# Altium footprint library PASSIVE_THD.PCBLIB: 248 footprints (part 6 of 16)
Each footprint in its own frame and in the unit in brackets; x right, y up, seen from the top. Pads: shape width x height; smd on the part's side, far side on the other; paste and mask are expansions set on the pad; w line width, h text height; cw(c..) or ccw(c..) is an arc to the next point about the centre after c.
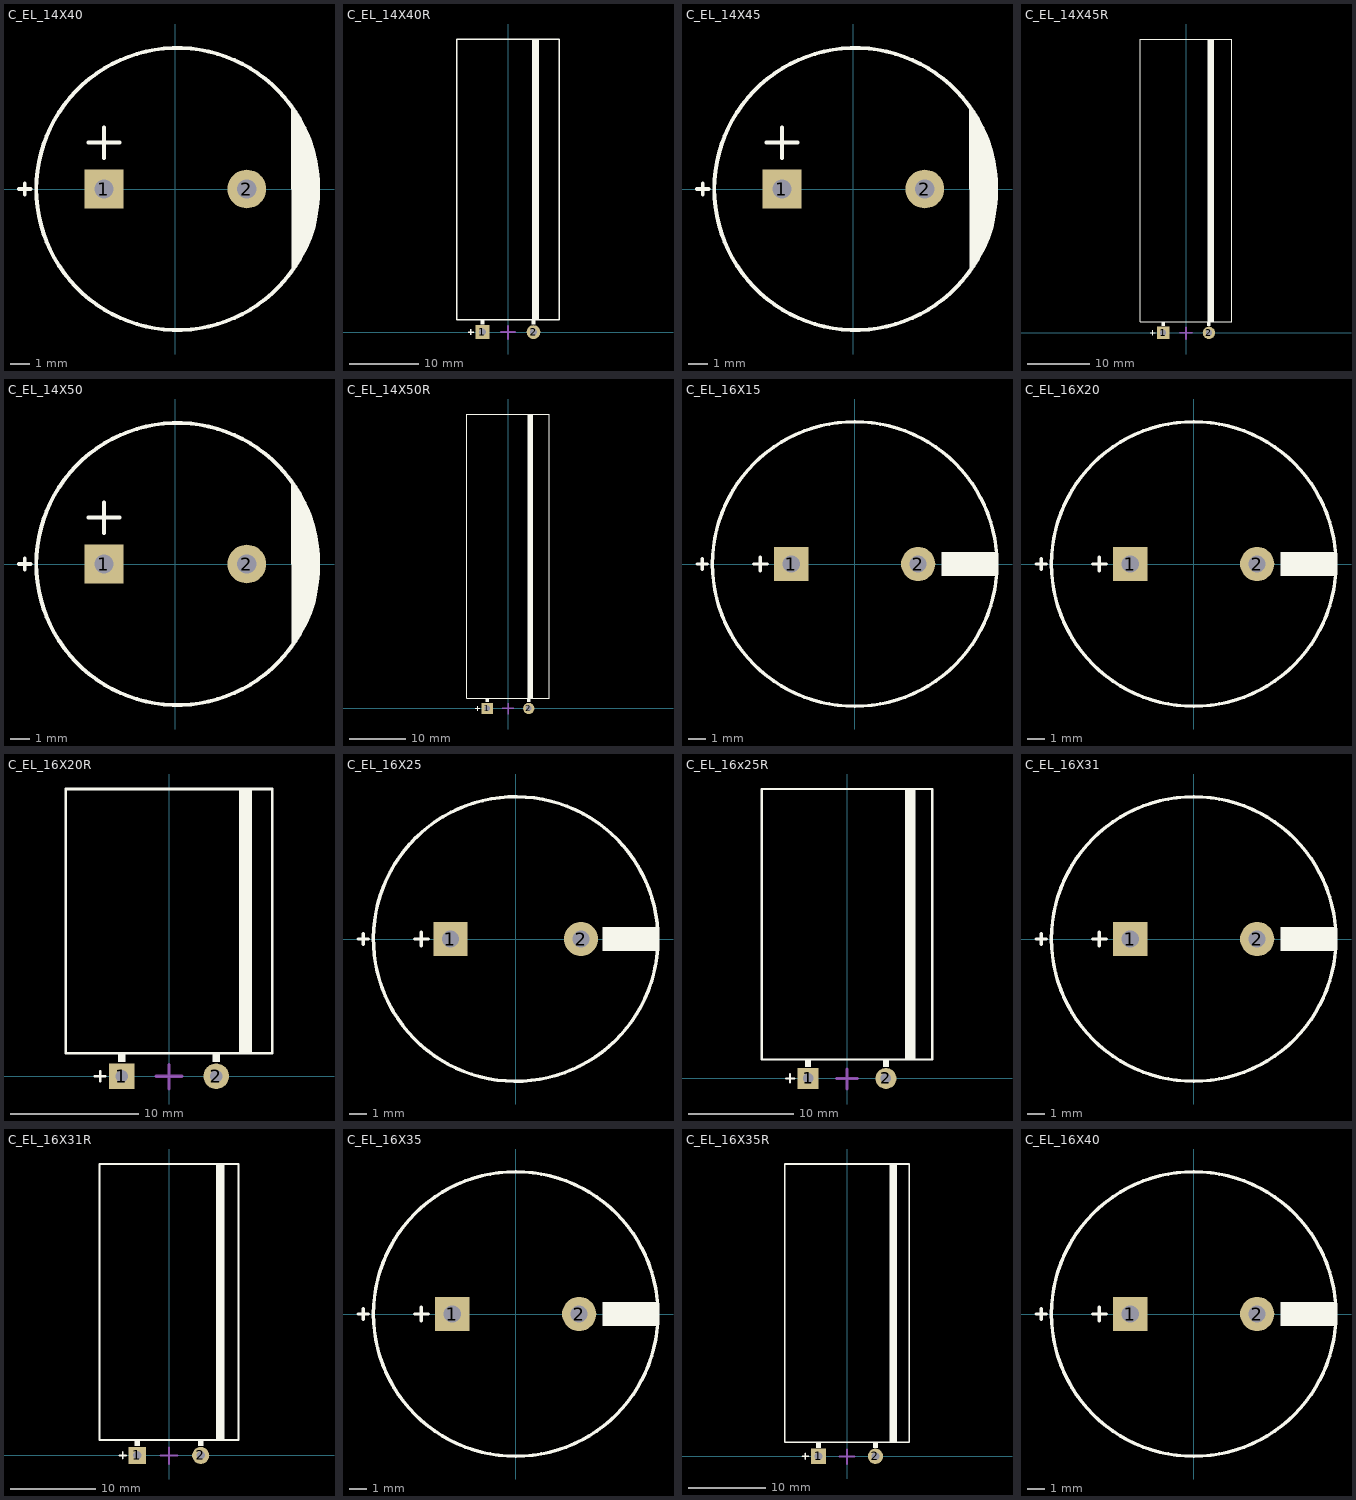
[diagram p5: the footprints below, top view; thin cyan lines are the x and y axes]

## C_EL_14X40 [mm] "Capacitor Electrolythic, D14.5X40H pitch: 7.4mm"
height 26
pads (2):
  rect 2x2 hole 1: 1(-3.7,0)
  round 2 hole 1: 2(3.7,0)
TopOverlay:
  circle w0.2: c0.096,0 r7.3
  region: 6,4.3 6.188,4.079 6.52,3.603 6.804,3.097 7.036,2.565 7.215,2.013 7.34,1.446 7.408,0.87 7.419,0.289 7.396,0 6,0
  region: 6.014,-4.294 6.203,-4.073 6.534,-3.597 6.818,-3.091 7.05,-2.559 7.23,-2.007 7.354,-1.44 7.422,-0.864 7.433,-0.283 7.41,0.006 6.014,0.006
  lines w0.2: -8.1,0 -7.5,0 ; -7.8,-0.3 -7.8,0.3 ; -4.5,2.4 -2.9,2.4 ; -3.7,1.6 -3.7,3.2
3D body "cap_el_vertical_d14.5_h40_p7.5_w0.8.stp": height 40.01, standoff -3, extent -7.242,-7.249 7.25,7.249

## C_EL_14X40R [mm] "Capacitor Electrolythic, D14.5X40H pitch: 7.4mm"
height 40
pads (2):
  rect 2x2 hole 1: 1(-3.7,0)
  round 2 hole 1: 2(3.7,0)
TopOverlay:
  region: 4,1.8 3.4,1.8 3.4,1.1 4,1.1
  rectangle: -4,1.1 -3.4,1.8
  rectangle: 3.5,1.8 4.5,42.5
  lines w0.2: -5.8,0 -5,0 ; -5.4,-0.4 -5.4,0.4 ; -7.4,1.8 -7.4,42.5 7.4,42.5 7.4,1.8 -7.4,1.8
Mechanical13:
  lines w0.254: -1,0 1,0 ; 0,-1 0,0.9
3D body "cap_el_horizontal_d14.5_h40_p7.5_w0.8.stp": height 14.6, standoff -3, extent -7.369,-0.4 7.123,42.41

## C_EL_14X45 [mm] "Capacitor Electrolythic, D14.5X45H pitch: 7.4mm"
height 26
pads (2):
  rect 2x2 hole 1: 1(-3.7,0)
  round 2 hole 1: 2(3.7,0)
TopOverlay:
  circle w0.2: c0.096,0 r7.3
  region: 6,4.3 6.188,4.079 6.52,3.603 6.804,3.097 7.036,2.565 7.215,2.013 7.34,1.446 7.408,0.87 7.419,0.289 7.396,0 6,0
  region: 6.014,-4.294 6.203,-4.073 6.534,-3.597 6.818,-3.091 7.05,-2.559 7.23,-2.007 7.354,-1.44 7.422,-0.864 7.433,-0.283 7.41,0.006 6.014,0.006
  lines w0.2: -8.1,0 -7.5,0 ; -7.8,-0.3 -7.8,0.3 ; -4.5,2.4 -2.9,2.4 ; -3.7,1.6 -3.7,3.2
3D body "cap_el_vertical_d14.5_h45_p7.5_w0.8.stp": height 45.01, standoff -3, extent -7.24,-7.239 7.25,7.239

## C_EL_14X45R [mm] "Capacitor Electrolythic, D14.5X45H pitch: 7.4mm"
height 40
pads (2):
  rect 2x2 hole 1: 1(-3.7,0)
  round 2 hole 1: 2(3.7,0)
TopOverlay:
  region: 4,1.8 3.4,1.8 3.4,1.1 4,1.1
  rectangle: -4,1.1 -3.4,1.8
  rectangle: 3.5,1.8 4.5,47.5
  lines w0.2: -5.8,0 -5,0 ; -5.4,-0.4 -5.4,0.4 ; -7.4,1.8 -7.4,47.5 7.4,47.5 7.4,1.8 -7.4,1.8
Mechanical13:
  lines w0.254: -1,0 1,0 ; 0,-1 0,0.9
3D body "cap_el_horizontal_d14.5_h45_p7.5_w0.8.stp": height 14.59, standoff -3, extent -7.24,-0.4 7.25,47.41

## C_EL_14X50 [mm] "Capacitor Electrolythic, D14.5X50H pitch: 7.4mm"
height 26
pads (2):
  rect 2x2 hole 1: 1(-3.7,0)
  round 2 hole 1: 2(3.7,0)
TopOverlay:
  circle w0.2: c0.096,0 r7.3
  region: 6.014,-4.294 6.203,-4.073 6.534,-3.597 6.818,-3.091 7.05,-2.559 7.23,-2.007 7.354,-1.44 7.422,-0.864 7.433,-0.283 7.41,0.006 6.014,0.006
  region: 6,4.3 6.188,4.079 6.52,3.603 6.804,3.097 7.036,2.565 7.215,2.013 7.34,1.446 7.408,0.87 7.419,0.289 7.396,0 6,0
  lines w0.2: -8.1,0 -7.5,0 ; -7.8,-0.3 -7.8,0.3 ; -4.5,2.4 -2.9,2.4 ; -3.7,1.6 -3.7,3.2
3D body "cap_el_vertical_d14.5_h50_p7.5_w0.8.stp": height 50.01, standoff -3, extent -7.24,-7.245 7.25,7.245

## C_EL_14X50R [mm] "Capacitor Electrolythic, D14.5X50H pitch: 7.4mm"
height 40
pads (2):
  rect 2x2 hole 1: 1(-3.7,0)
  round 2 hole 1: 2(3.7,0)
TopOverlay:
  rectangle: 3.5,1.8 4.5,52.5
  rectangle: -4,1.1 -3.4,1.8
  region: 4,1.8 3.4,1.8 3.4,1.1 4,1.1
  lines w0.2: -5.8,0 -5,0 ; -5.4,-0.4 -5.4,0.4 ; -7.4,1.8 7.4,1.8 7.4,52.5 -7.4,52.5 -7.4,1.8
Mechanical13:
  lines w0.254: -1,0 1,0 ; 0,-1 0,0.9
3D body "cap_el_horizontal_d14.5_h50_p7.5_w0.8.stp": height 14.6, standoff -3, extent -7.24,-0.4 7.25,52.41

## C_EL_16X15 [mm] "Capacitor Electrolythic, D16X15H pitch: 7.4mm"
height 26
pads (2):
  rect 2x2 hole 1: 1(-3.7,0)
  round 2 hole 1: 2(3.7,0)
TopOverlay:
  circle w0.2: c0,0 r8.3
  rectangle: 5.07,-0.7 8.3,0.7
  lines w0.2: -9.2,0 -8.6,0 ; -8.9,-0.3 -8.9,0.3 ; -5.9,0 -5.1,0 ; -5.5,-0.4 -5.5,0.4
3D body "CAP_RAD_D16x15_POL_BK.stp": height 16.5, standoff -2.5, extent -8.25,-8.243 8.25,8.243

## C_EL_16X20 [mm] "Capacitor Electrolythic, D16X20H pitch: 7.4mm"
height 26
pads (2):
  rect 2x2 hole 1: 1(-3.7,0)
  round 2 hole 1: 2(3.7,0)
TopOverlay:
  circle w0.2: c0,0 r8.3
  rectangle: 5.07,-0.7 8.3,0.7
  lines w0.2: -9.2,0 -8.6,0 ; -8.9,-0.3 -8.9,0.3 ; -5.9,0 -5.1,0 ; -5.5,-0.4 -5.5,0.4
3D body "cap_el_vertical_d16_h20_p7.5_w0.8.stp": height 20.01, standoff -3, extent -8,-8 8.01,8

## C_EL_16X20R [mm] "Capacitor Electrolythic, D16X20H pitch: 7.4mm"
height 40
pads (2):
  rect 2x2 hole 1: 1(-3.7,0)
  round 2 hole 1: 2(3.7,0)
TopOverlay:
  rectangle: 5.5,1.8 6.5,22.5
  rectangle: -4,1.1 -3.4,1.8
  region: 4,1.8 3.4,1.8 3.4,1.1 4,1.1
  lines w0.2: -5.8,0 -5,0 ; -5.4,-0.4 -5.4,0.4 ; -8.1,1.8 8.1,1.8 8.1,22.5 -8.1,22.5 -8.1,1.8
Mechanical13:
  lines w0.254: -1,0 1,0 ; 0,-1 0,0.9
3D body "cap_el_horizontal_d16_h20_p7.5_w0.8.stp": height 16.1, standoff -3, extent -8,-0.4 8.01,22.41

## C_EL_16X25 [mm] "Cap Elec, D16.0X25.0H pitch: 7.6mm, RB.3/.6"
pads (2):
  rect 2x2 hole 1: 1(-3.81,0)
  round 2 hole 1: 2(3.81,0)
TopOverlay:
  rectangle: 5.07,-0.7 8.25,0.7
  lines w0.2: -9.2,0 -8.6,0 ; -8.9,-0.3 -8.9,0.3 ; -5.9,0 -5.1,0 ; -5.5,-0.4 -5.5,0.4 ; 8.148,-1.584 cw(c0,0) 8.152,-1.563
3D body "User Library-CE_R300_D650_H1000.step": height 25.4, standoff -3.5, extent -8.235,-8.239 8.25,8.239

## C_EL_16x25R [mm] "Capacitor Electrolythic, D16X25H pitch: 7.4mm"
height 40
pads (2):
  rect 2x2 hole 1: 1(-3.7,0)
  round 2 hole 1: 2(3.7,0)
TopOverlay:
  region: 4,1.8 3.4,1.8 3.4,1.1 4,1.1
  rectangle: -4,1.1 -3.4,1.8
  rectangle: 5.5,1.8 6.5,27.5
  lines w0.2: -5.8,0 -5,0 ; -5.4,-0.4 -5.4,0.4 ; -8.1,1.8 -8.1,27.5 8.1,27.5 8.1,1.8 -8.1,1.8
Mechanical13:
  lines w0.254: -1,0 1,0 ; 0,-1 0,0.9
3D body "cap_el_horizontal_d16_h25_p7.5_w0.8.stp": height 16.09, standoff -3, extent -8,-0.4 8.01,27.41

## C_EL_16X31 [mm] "Capacitor Electrolythic, D16X31H pitch: 7.4mm"
height 26
pads (2):
  rect 2x2 hole 1: 1(-3.7,0)
  round 2 hole 1: 2(3.7,0)
TopOverlay:
  circle w0.2: c0,0 r8.3
  rectangle: 5.07,-0.7 8.3,0.7
  lines w0.2: -9.2,0 -8.6,0 ; -8.9,-0.3 -8.9,0.3 ; -5.9,0 -5.1,0 ; -5.5,-0.4 -5.5,0.4
3D body "cap_el_vertical_d16_h31.5_p7.5_w0.8.stp": height 31.51, standoff -3, extent -7.99,-7.989 8.01,7.989

## C_EL_16X31R [mm] "Capacitor Electrolythic, D16X31H pitch: 7.4mm"
height 40
pads (2):
  rect 2x2 hole 1: 1(-3.7,0)
  round 2 hole 1: 2(3.7,0)
TopOverlay:
  rectangle: 5.5,1.8 6.5,34
  rectangle: -4,1.1 -3.4,1.8
  region: 4,1.8 3.4,1.8 3.4,1.1 4,1.1
  lines w0.2: -5.8,0 -5,0 ; -5.4,-0.4 -5.4,0.4 ; -8.1,1.8 8.1,1.8 8.1,34 -8.1,34 -8.1,1.8
Mechanical13:
  lines w0.254: -1,0 1,0 ; 0,-1 0,0.9
3D body "cap_el_horizontal_d16_h31.5_p7.5_w0.8.stp": height 16.09, standoff -3, extent -7.99,-0.4 8.01,33.91

## C_EL_16X35 [mm] "Capacitor Electrolythic, D16X35H pitch: 7.4mm"
height 26
pads (2):
  rect 2x2 hole 1: 1(-3.7,0)
  round 2 hole 1: 2(3.7,0)
TopOverlay:
  circle w0.2: c0,0 r8.3
  rectangle: 5.07,-0.7 8.3,0.7
  lines w0.2: -9.2,0 -8.6,0 ; -8.9,-0.3 -8.9,0.3 ; -5.9,0 -5.1,0 ; -5.5,-0.4 -5.5,0.4
3D body "cap_el_vertical_d16_h35.5_p7.5_w0.8.stp": height 35.51, standoff -3, extent -7.992,-8 8.01,8

## C_EL_16X35R [mm] "Capacitor Electrolythic, D16X35H pitch: 7.4mm"
height 40
pads (2):
  rect 2x2 hole 1: 1(-3.7,0)
  round 2 hole 1: 2(3.7,0)
TopOverlay:
  rectangle: 5.5,1.8 6.5,38
  rectangle: -4,1.1 -3.4,1.8
  region: 4,1.8 3.4,1.8 3.4,1.1 4,1.1
  lines w0.2: -5.8,0 -5,0 ; -5.4,-0.4 -5.4,0.4 ; -8.1,1.8 8.1,1.8 8.1,38 -8.1,38 -8.1,1.8
Mechanical13:
  lines w0.254: -1,0 1,0 ; 0,-1 0,0.9
3D body "cap_el_horizontal_d16_h35.5_p7.5_w0.8.stp": height 16.1, standoff -3, extent -7.992,-0.4 8.01,37.91

## C_EL_16X40 [mm] "Capacitor Electrolythic, D16X40H pitch: 7.4mm"
height 26
pads (2):
  rect 2x2 hole 1: 1(-3.7,0)
  round 2 hole 1: 2(3.7,0)
TopOverlay:
  circle w0.2: c0,0 r8.3
  rectangle: 5.07,-0.7 8.3,0.7
  lines w0.2: -9.2,0 -8.6,0 ; -8.9,-0.3 -8.9,0.3 ; -5.9,0 -5.1,0 ; -5.5,-0.4 -5.5,0.4
3D body "cap_el_vertical_d16_h40_p7.5_w0.8.stp": height 40.01, standoff -3, extent -7.992,-7.982 7.999,7.983